# Altium schematic symbol library Tubes.SchLib: 5 symbols
Pins are listed as number, name and electrical type; pins without a type are passive.

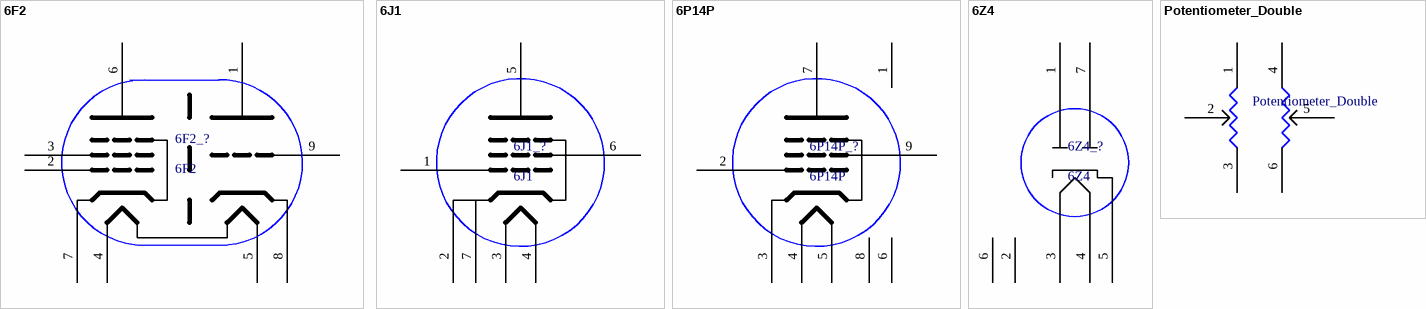
[diagram p0: symbols 6F2 to Potentiometer_Double]

## 6F2
designator 6F2_?
footprint 6P14P
pins: 1, 2, 3, 4, 5, 6, 7, 8, 9

## 6J1
designator 6J1_?
footprint 6Z4
pins: 1, 2, 3, 4, 5, 6, 7

## 6P14P
designator 6P14P_?
footprint 6P14P
pins: 1, 2, 3, 4, 5, 6, 7, 8, 9

## 6Z4
designator 6Z4_?
footprint 6Z4
pins: 1 Anode1, 2, 3 Filament1, 4 Filament2, 5, 6 Cathode, 7 Anode2

## Potentiometer_Double
designator Potentiometer_Double  (value not drawn)
footprint Potentiometer_Double
pins: 1, 2, 3, 4, 5, 6